# Altium footprint library RES_ERA6ARB332V.PcbLib: 1 footprints
Each footprint in its own frame and in the unit in brackets; x right, y up, seen from the top. Pads: shape width x height; smd on the part's side, far side on the other; paste and mask are expansions set on the pad; w line width, h text height; cw(c..) or ccw(c..) is an arc to the next point about the centre after c.
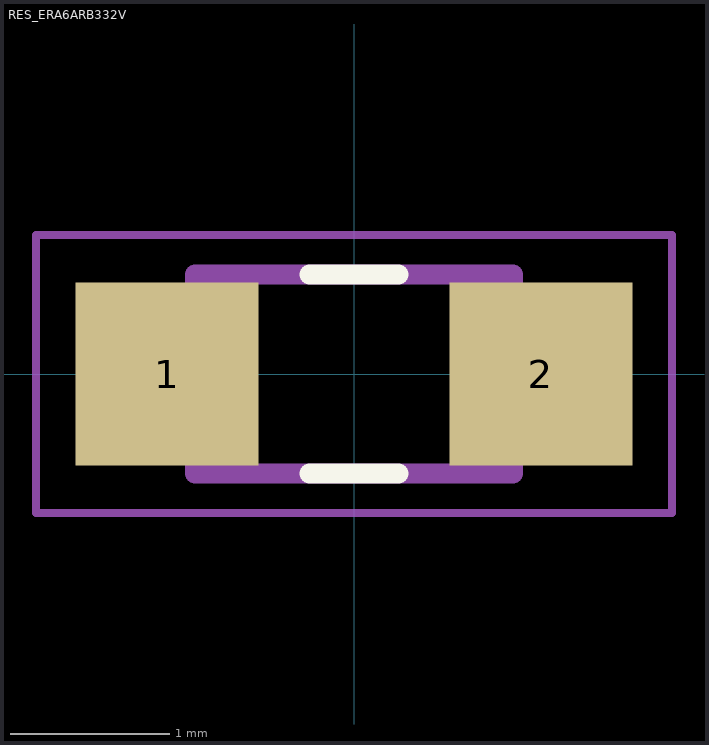
[diagram p0: the footprint, top view; thin cyan lines are the x and y axes]

## RES_ERA6ARB332V [mm]
pads (2):
  rect 1.15x1.15 smd: 1(-1.175,0) 2(1.175,0)
Top Overlay:
  lines w0.127: -0.28,-0.625 0.28,-0.625 ; -0.28,0.625 0.28,0.625
Mechanical 13:
  lines w0.127: -1,-0.625 -1,0.625 1,0.625 1,-0.625 -1,-0.625
Mechanical 15:
  lines w0.05: -2,-0.875 -2,0.875 2,0.875 2,-0.875 -2,-0.875
3D body "step_temp.STEP": height 0.6, standoff 0, extent -1,-0.625 1,0.625